# EAGLE library part MIC38300_HELDO (library MyLib)
Micrel MIC38300 High Efficiency Low Dropout Regulator
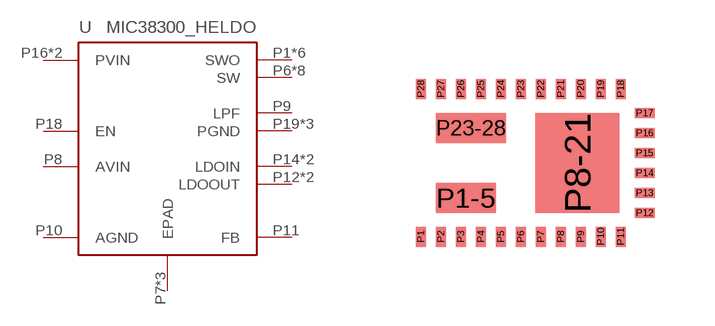
[diagram p4: symbol with the pads of MLF; footprint MLF]

Designator prefix -

## MIC38300_HELDO  [MLF]
P1  SWO  pas
P1-5  SWO  pas
P2  SWO  pas
P3  SWO  pas
P4  SWO  pas
P5  SWO  pas
P6  SW
P7  EPAD  pwr
P8  AVIN  pwr
P8-21  EPAD  pwr
P9  LPF
P10  AGND
P11  FB
P12  LDOOUT  pwr
P13  LDOOUT  pwr
P14  LDOIN  pwr
P15  LDOIN  pwr
P16  PVIN  pwr
P17  PVIN  pwr
P18  EN
P19  PGND  pwr
P20  PGND  pwr
P21  PGND  pwr
P22  EPAD  pwr
P23  SW
P23-28  SW
P24  SW
P25  SW
P26  SW
P27  SW
P28  SW

## Footprint MLF (pad centres in mm)
28-pin MLF with thermal vias
smd 0.25 x 0.5: P1 -2.755,-1.85; P2 -2.255,-1.85; P3 -1.755,-1.85; P4 -1.255,-1.85; P5 -0.755,-1.85; P6 -0.255,-1.85; P7 0.245,-1.85; P8 0.745,-1.85; P9 1.245,-1.85; P10 1.745,-1.85; P11 2.245,-1.85; P18 2.245,1.85; P19 1.745,1.85; P20 1.245,1.85; P21 0.745,1.85; P22 0.245,1.85; P23 -0.255,1.85; P24 -0.755,1.85; P25 -1.255,1.85; P26 -1.755,1.85; P27 -2.255,1.85; P28 -2.755,1.85
smd 1.5 x 0.75: P1-5 -1.63,-0.875
smd 2.1 x 2.5: P8-21 1.165,0
smd 0.5 x 0.25: P12 2.845,-1.25; P13 2.845,-0.75; P14 2.845,-0.25; P15 2.845,0.25; P16 2.845,0.75; P17 2.845,1.25
smd 1.75 x 0.75: P23-28 -1.505,0.875